# Altium schematic symbol library 12401832E402A.SchLib: 1 symbol
Pins are listed as number, name and electrical type; pins without a type are passive.

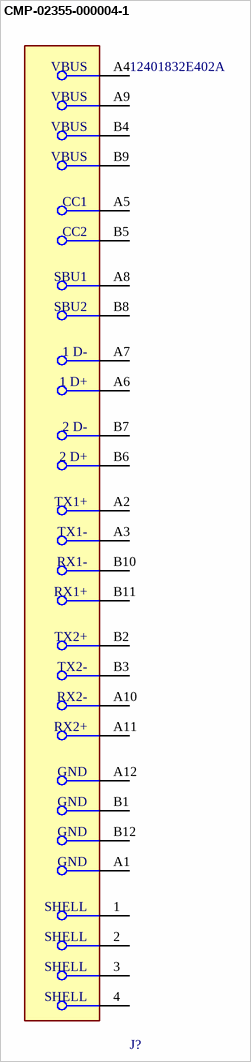
[diagram p0: symbol CMP-02355-000004-1]

## CMP-02355-000004-1
designator J?, comment 12401832E402A
CONN RCP USB3.1 TYPEC 24P SMD RA
footprint FP-12401832E402A-MFG
pins: 1 SHELL (power), 2 SHELL, 3 SHELL, 4 SHELL (power), A1 GND, A2 TX1+, A3 TX1-, A4 VBUS, A5 CC1 (power), A6 1 D+, A7 1 D-, A8 SBU1 (power), A9 VBUS (power), A10 RX2-, A11 RX2+, A12 GND (power), B1 GND, B2 TX2+, B3 TX2-, B4 VBUS, B5 CC2 (power), B6 2 D+, B7 2 D-, B8 SBU2 (power), B9 VBUS (power), B10 RX1- (power), B11 RX1+ (power), B12 GND (power)